# Altium footprint library Resistors Generic.PcbLib: 3 footprints
Each footprint in its own frame and in the unit in brackets; x right, y up, seen from the top. Pads: shape width x height; smd on the part's side, far side on the other; paste and mask are expansions set on the pad; w line width, h text height; cw(c..) or ccw(c..) is an arc to the next point about the centre after c.
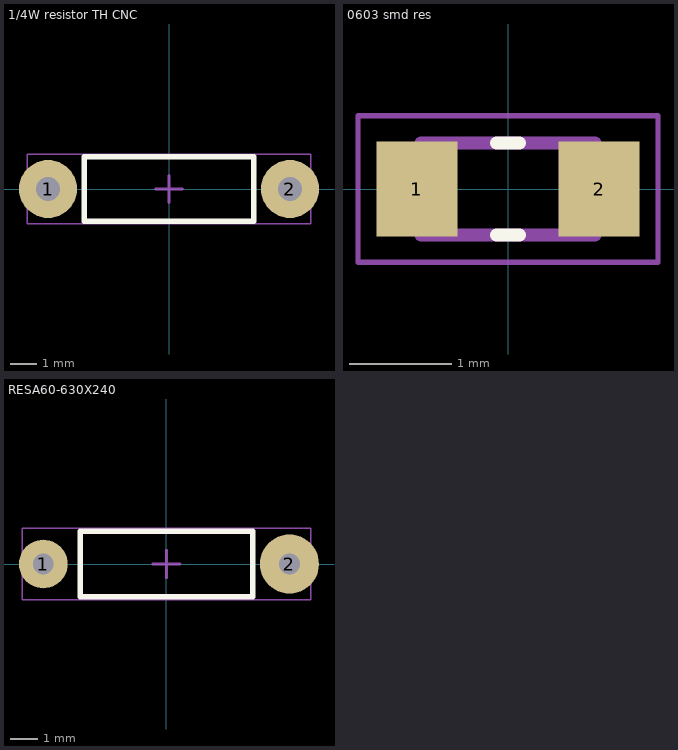
[diagram p0: the footprints below, top view; thin cyan lines are the x and y axes]

## 1/4W resistor TH CNC [mil] "Axial Resistor, 2-Leads, Dia 2.4mm, Body Length 6.3mm"
height 102.36
pads (2):
  round 85 hole 35: 1(-177.17,0) 2(177.17,0)
Top Overlay:
  lines w7.87: -124.02,-47.24 -124.02,47.24 124.02,47.24 124.02,-47.24 -124.02,-47.24
Mechanical 13:
  lines w3.94: -124.02,-47.24 124.02,-47.24 124.02,47.24 -124.02,47.24 -124.02,-47.24
Mechanical 15:
  lines w1.97: -207.68,-51.18 -207.68,51.18 207.68,51.18 207.68,-51.18 -207.68,-51.18
  lines w3.94: -19.68,0 19.68,0 ; 0,-19.68 0,19.68
3D body "100K.STEP": height 96.94, standoff -75.98, extent -209.84,-47.57 209.84,47

## 0603 smd res [mm]
pads (2):
  rect 0.79x0.93 smd: 1(-0.889,0) 2(0.889,0)
Top Overlay:
  lines w0.127: -0.11,-0.45 0.11,-0.45 ; -0.11,0.45 0.11,0.45
Mechanical 13:
  lines w0.127: -0.85,-0.45 -0.85,0.45 0.85,0.45 0.85,-0.45 -0.85,-0.45
Mechanical 15:
  lines w0.05: -1.465,-0.715 -1.465,0.715 1.465,0.715 1.465,-0.715 -1.465,-0.715
3D body "RC0603JR-0710RL.STEP": height 0.45, standoff 0, extent -0.749,-0.4 0.851,0.4

## RESA60-630X240 [mil] "Axial Resistor, 2-Leads, Dia 2.4mm, Body Length 6.3mm"
height 102.36
pads (2):
  round 70 hole 30: 1(-177.17,0)
  round 85 hole 30: 2(177.17,0)
Top Overlay:
  lines w7.87: -124.02,-47.24 -124.02,47.24 124.02,47.24 124.02,-47.24 -124.02,-47.24
Mechanical 13:
  lines w3.94: -124.02,-47.24 124.02,-47.24 124.02,47.24 -124.02,47.24 -124.02,-47.24
Mechanical 15:
  lines w1.97: -207.68,-51.18 -207.68,51.18 207.68,51.18 207.68,-51.18 -207.68,-51.18
  lines w3.94: -19.68,0 19.68,0 ; 0,-19.68 0,19.68
3D body "100K.STEP": height 96.94, standoff -75.98, extent -209.84,-47.57 209.84,47